# EAGLE library part TMP12* (library termosensor)
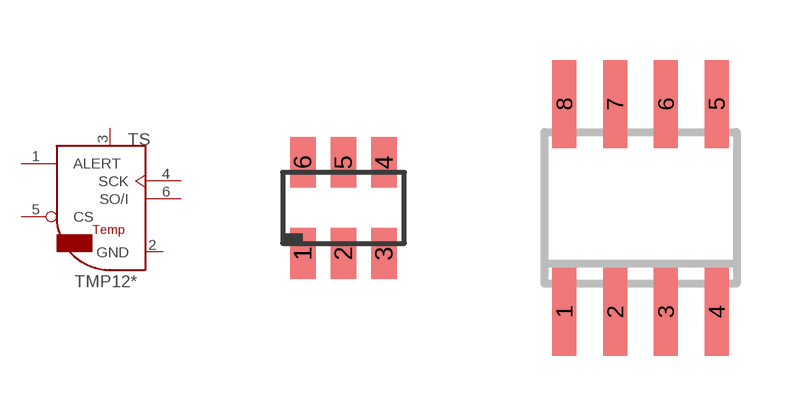
[diagram p2: symbol with the pads of SOT23-6; footprints SOT23-6, SO-8]

Designator prefix TS

## TMP122  [SOT23-6]
1  ALERT  out
2  GND  pwr
3  UCC  pwr
4  SCK  in
5  CS  in
6  SO/I

## TMP124  [SO-8]
1  SO/I
2  SCK  in
4  GND  pwr
5  ALERT  out
7  CS  in
8  UCC  pwr

## Footprint SOT23-6 (pad centres in mm)
SMD 3x1,75mm /6pin
smd 0.635 x 1.27: 1 1.27,-0.254; 2 2.286,-0.254; 3 3.302,-0.254; 4 3.302,2.032; 5 2.286,2.032; 6 1.27,2.032

## Footprint SO-8 (pad centres in mm)
SMALL OUTLINE INTEGRATED CIRCUIT body 3.9 mm/8pin
smd 0.6 x 2.2: 1 -1.905,-2.6; 2 -0.635,-2.6; 3 0.635,-2.6; 4 1.905,-2.6; 5 1.905,2.6; 6 0.635,2.6; 7 -0.635,2.6; 8 -1.905,2.6